# EAGLE library part BQ76925_PW_20 (library BM_pre)
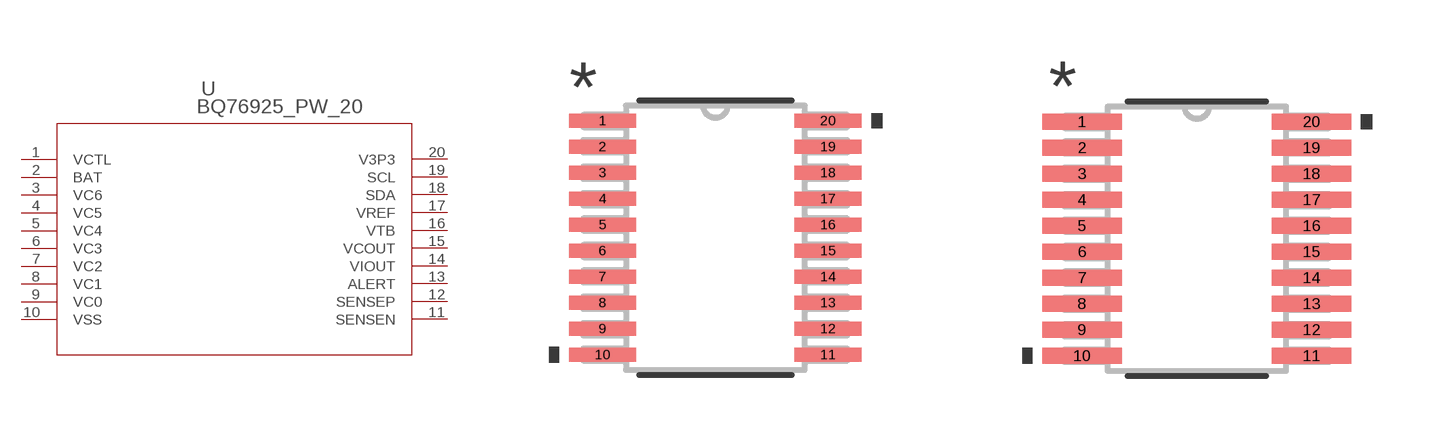
[diagram p0: symbol with the pads of PW20; footprints PW20, PW20-M]

Designator prefix -

## BQ76925_PW_20 (MANUFACTURER_PART_NUMBER: bq76925_pw_20; VENDOR: Texas Instruments)  [PW20]
1  VCTL  out
2  BAT  pwr
3  VC6  in
4  VC5  in
5  VC4  in
6  VC3  in
7  VC2  in
8  VC1  in
9  VC0  in
10  VSS  pwr
11  SENSEN  in
12  SENSEP  in
13  ALERT  out
14  VIOUT  out
15  VCOUT  out
16  VTB  out
17  VREF  out
18  SDA
19  SCL  in
20  V3P3  out

## BQ76925_PW_20PW20-M (MANUFACTURER_PART_NUMBER: bq76925_pw_20; VENDOR: Texas Instruments)  [PW20-M]
Pads as for PW20

## BQ76925_PW_20PW20-L (MANUFACTURER_PART_NUMBER: bq76925_pw_20; VENDOR: Texas Instruments)  [PW20-L]
Pads as for PW20

## Footprint PW20 (pad centres in mm)
smd 1.676 x 0.356: 1 -2.819,2.925; 2 -2.819,2.275; 3 -2.819,1.625; 4 -2.819,0.975; 5 -2.819,0.325; 6 -2.819,-0.325; 7 -2.819,-0.975; 8 -2.819,-1.625; 9 -2.819,-2.275; 10 -2.819,-2.925; 11 2.819,-2.925; 12 2.819,-2.275; 13 2.819,-1.625; 14 2.819,-0.975; 15 2.819,-0.325; 16 2.819,0.325; 17 2.819,0.975; 18 2.819,1.625; 19 2.819,2.275; 20 2.819,2.925

## Footprint PW20-M (pad centres in mm)
smd 1.981 x 0.406: 1 -2.87,2.925; 2 -2.87,2.275; 3 -2.87,1.625; 4 -2.87,0.975; 5 -2.87,0.325; 6 -2.87,-0.325; 7 -2.87,-0.975; 8 -2.87,-1.625; 9 -2.87,-2.275; 10 -2.87,-2.925; 11 2.87,-2.925; 12 2.87,-2.275; 13 2.87,-1.625; 14 2.87,-0.975; 15 2.87,-0.325; 16 2.87,0.325; 17 2.87,0.975; 18 2.87,1.625; 19 2.87,2.275; 20 2.87,2.925

## Footprint PW20-L (pad centres in mm)
smd 1.372 x 0.305: 1 -2.769,2.925; 2 -2.769,2.275; 3 -2.769,1.625; 4 -2.769,0.975; 5 -2.769,0.325; 6 -2.769,-0.325; 7 -2.769,-0.975; 8 -2.769,-1.625; 9 -2.769,-2.275; 10 -2.769,-2.925; 11 2.769,-2.925; 12 2.769,-2.275; 13 2.769,-1.625; 14 2.769,-0.975; 15 2.769,-0.325; 16 2.769,0.325; 17 2.769,0.975; 18 2.769,1.625; 19 2.769,2.275; 20 2.769,2.925